# Altium footprint library CONN_W2B.PcbLib: 89 footprints (part 1 of 6)
Each footprint in its own frame and in the unit in brackets; x right, y up, seen from the top. Pads: shape width x height; smd on the part's side, far side on the other; paste and mask are expansions set on the pad; w line width, h text height; cw(c..) or ccw(c..) is an arc to the next point about the centre after c.
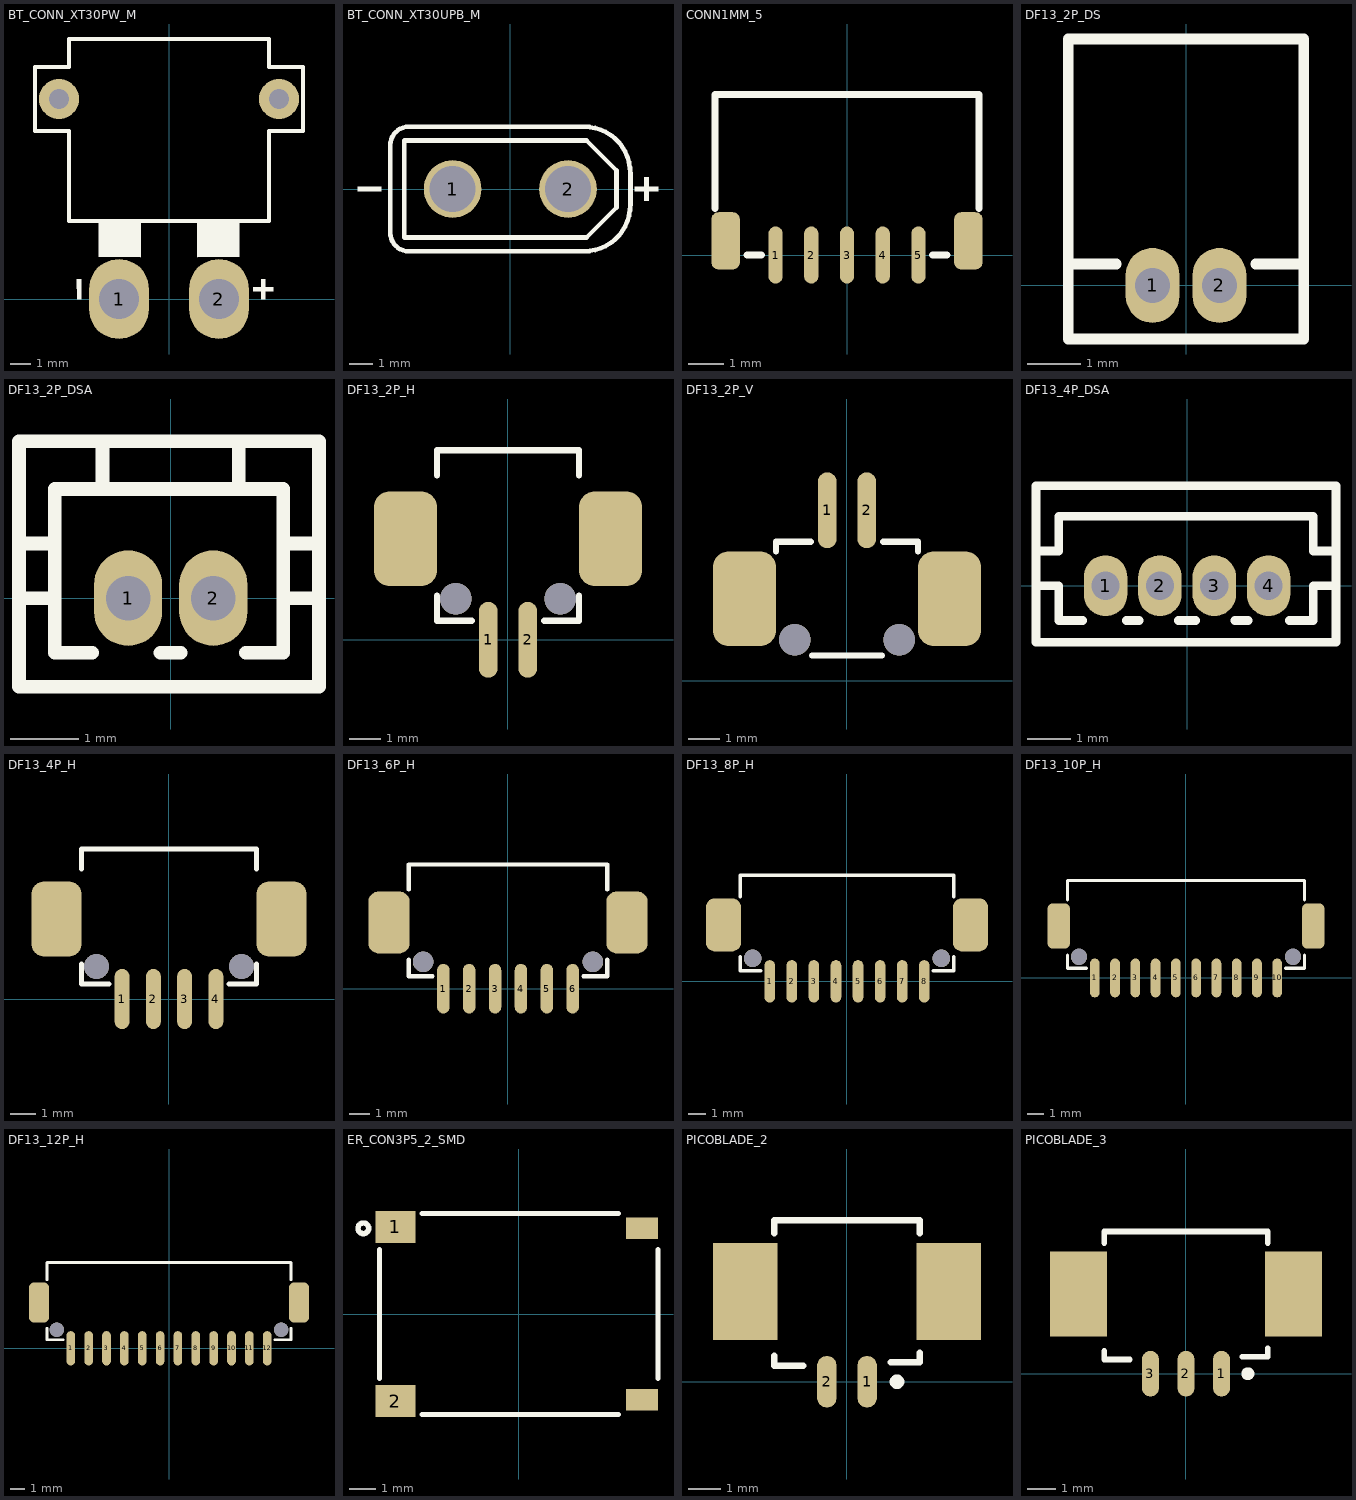
[diagram p0: the footprints below, top view; thin cyan lines are the x and y axes]

## BT_CONN_XT30PW_M [mm] "BATTERY CONN, XT30PW-M , right angle"
pads (4):
  oval 3x4 hole 2: 1(-2.5,0) 2(2.5,0)
  round 2 hole 1 unplated: ""(-5.5,10) ""(5.5,10)
Top Overlay:
  region: -4.6,1 -4.4,1 -4.4,0 -4.6,0
  region: 4.6,1 4.8,1 4.8,0 4.6,0
  region: 4.2,0.4 4.2,0.6 5.2,0.6 5.2,0.4
  region: -1.4,2.1 -1.4,3.9 -3.5,3.9 -3.5,2.1
  region: 1.4,2.1 1.4,3.9 3.5,3.9 3.5,2.1
  lines w0.2: -6.7,8.4 -5,8.4 -5,3.9 5,3.9 5,8.4 6.7,8.4 6.7,11.6 5,11.6 5,13 -5,13 -5,11.6 -6.7,11.6 -6.7,8.4
3D body "XT30PW-M.step": height 5, standoff -2, extent -6.65,-1 6.65,12.95

## BT_CONN_XT30UPB_M [mm] "BATTERY CONN, XT30UPB-M, Vertical"
pads (2):
  round 2.5 / inner round 2.5 / far side oval 3x4 hole 2: 1(-2.5,0) 2(2.5,0)
Top Overlay:
  region: 5.4,0.1 5.4,-0.1 6.4,-0.1 6.4,0.1
  region: 5.8,-0.5 6,-0.5 6,0.5 5.8,0.5
  region: -6.6,0.1 -6.6,-0.1 -5.6,-0.1 -5.6,0.1
  lines w0.2: 5.2,-0.7 cw(c3.2,-0.7) 3.2,-2.7 -4.4,-2.7 cw(c-4.4,-1.9) -5.2,-1.9 -5.2,1.9 cw(c-4.4,1.9) -4.4,2.7 3.2,2.7 cw(c3.2,0.7) 5.2,0.7 ; 5.207,-0.693 5.207,0.693 ; -4.6,-2.1 3.3,-2.1 4.6,-0.8 4.6,0.8 3.3,2.1 -4.6,2.1 -4.6,-2.1
3D body "XT30PB.stp": height 10.65, standoff -2.05, extent -5.1,-2.6 5.1,2.6

## CONN1MM_5 [mm] "CONN, 1mm, SMT RA, TE 1734709-5"
height 3
pads (7):
  oval 0.4x1.6 smd: 1(-2,0) 2(-1,0) 3(0,0) 4(1,0) 5(2,0)
  rrect50% 0.8x1.6 smd: ""(-3.4,0.4) ""(3.4,0.4)
Top Overlay:
  lines w0.2: -3.7,1.3 -3.7,4.5 3.7,4.5 3.7,1.3 ; -2.8,0 -2.4,0 ; 2.4,0 2.8,0
3D body "c-1734709-5-b-3d.stp": height 2.95, standoff 0, extent -3.65,-0.55 3.65,4.4

## DF13_2P_DS [mm] "Hirose Connector DF13-2P-1.25DS pitch:1.25mm"
height 3
pads (2):
  oval 1x1.4 hole 0.65: 1(-0.625,0) 2(0.625,0)
Top Overlay:
  lines w0.2: -2.2,0.4 -1.3,0.4 ; 1.3,0.4 2.2,0.4 ; -2.2,-1 -2.2,4.6 2.2,4.6 2.2,-1 -2.2,-1
3D body "DF13-2P-1.25DS.stp": height 3.63, standoff -2.27, extent -2.075,-0.9 2.075,4.5

## DF13_2P_DSA [mm] "Hirose Connector DF13-2P-1.25DSA pitch:1.25mm"
height 3
pads (2):
  oval 1x1.4 hole 0.65: 1(-0.625,0) 2(0.625,0)
Top Overlay:
  lines w0.2: -2.225,0.8 -1.7,0.8 ; -2.2,0 -1.7,0 ; -1.15,-0.8 -1.7,-0.8 -1.7,0 ; -1,1.6 -1,2.3 ; -0.15,-0.8 0.15,-0.8 ; 1,1.6 1,2.3 ; 1.1,-0.8 1.65,-0.8 1.65,0 ; 2.15,0 1.65,0 ; 2.175,0.8 1.65,0.8 ; -1.7,0 -1.7,0.8 ; -1.7,0.8 -1.7,1.6 1.65,1.6 1.65,0.8 ; 1.65,0 1.65,0.8 ; -2.225,-1.3 -2.225,2.3 2.175,2.3 2.175,-1.3 -2.225,-1.3
3D body "DF13-2P-1.25DSA.stp": height 4.32, standoff -2.28, extent -2.075,-1.2 2.075,2.2

## DF13_2P_H [mm] "Hirose Connector DF13-2P-1.25H, pitch:1.25mm"
height 3
pads (6):
  oval 0.6x2.4 smd: 1(-0.625,0) 2(0.625,0)
  rrect50% 2x3 smd: ""(-3.25,3.2) ""(3.25,3.2)
  round 1 hole 1 unplated: ""(-1.65,1.3) ""(1.65,1.3)
Top Overlay:
  lines w0.2: -2.25,1.4 -2.25,0.6 -1.15,0.6 ; -2.25,5.2 -2.25,6 2.25,6 2.25,5.2 ; 1.15,0.6 2.25,0.6 2.25,1.4
3D body "DF13A-2P-1.25H.stp": height 3.58, standoff -0.02, extent -3.575,-0.6 3.575,5.9

## DF13_2P_V [mm] "Hirose Connector DF13-2P-1.25V, pitch:1.25mm"
height 3
pads (6):
  oval 0.6x2.4 smd: 1(-0.625,5.4) 2(0.625,5.4)
  rrect50% 2x3 smd: ""(-3.25,2.6) ""(3.25,2.6)
  round 1 hole 1 unplated: ""(-1.65,1.3) ""(1.65,1.3)
Top Overlay:
  lines w0.2: -2.25,4.1 -2.25,4.4 -1.15,4.4 ; -1.1,0.8 1.1,0.8 ; 1.15,4.4 2.25,4.4 2.25,4.1
3D body "WNCW-1600242.stp": height 4.77, standoff -0.83, extent -3.575,0.9 3.575,5.8

## DF13_4P_DSA [mm] "Hirose Connector DF13-4P-1.25DSA pitch:1.25mm"
height 3
pads (4):
  oval 1x1.4 hole 0.65: 1(-1.875,0) 2(-0.625,0) 3(0.625,0) 4(1.875,0)
Top Overlay:
  lines w0.2: -3.475,0.8 -2.95,0.8 -2.95,1.6 2.9,1.6 2.9,0.8 3.425,0.8 ; -3.45,0 -2.95,0 -2.95,-0.8 -2.4,-0.8 ; -1.4,-0.8 -1.1,-0.8 ; -0.2,-0.8 0.2,-0.8 ; 1.1,-0.8 1.4,-0.8 ; 2.35,-0.8 2.9,-0.8 2.9,0 3.4,0 ; -3.475,-1.3 -3.475,2.3 3.425,2.3 3.425,-1.3 -3.475,-1.3
3D body "step_temp.STEP": height 4.32, standoff -2.28, extent -3.345,-1.191 3.305,2.209

## DF13_4P_H [mm] "Hirose Connector DF13-4P-1.25H, DF13 4WAY pitch:1.25mm"
height 3
pads (8):
  oval 0.6x2.4 smd: 1(-1.875,0) 2(-0.625,0) 3(0.625,0) 4(1.875,0)
  rrect50% 2x3 smd: ""(-4.5,3.2) ""(4.5,3.2)
  round 1 hole 1 unplated: ""(-2.9,1.3) ""(2.9,1.3)
Top Overlay:
  lines w0.2: -3.5,1.4 -3.5,0.6 -2.4,0.6 ; -3.5,5.2 -3.5,6 3.5,6 3.5,5.2 ; 2.4,0.6 3.5,0.6 3.5,1.4
3D body "DF13_4WAY.stp": height 3.58, standoff -0.82, extent -4.825,-0.6 4.825,5.9

## DF13_6P_H [mm] "Hirose Connector DF13-6P-1.25H, DF13 6WAY pitch:1.25mm"
height 3
pads (10):
  oval 0.6x2.4 smd: 1(-3.125,0) 2(-1.875,0) 3(-0.625,0) 4(0.625,0) 5(1.875,0) 6(3.125,0)
  rrect50% 2x3 smd: ""(-5.75,3.2) ""(5.75,3.2)
  round 1 hole 1 unplated: ""(-4.1,1.3) ""(4.1,1.3)
Top Overlay:
  lines w0.2: -4.8,1.4 -4.8,0.6 -3.65,0.6 ; -4.8,4.8 -4.8,6 4.8,6 4.8,4.8 ; 3.65,0.6 4.8,0.6 4.8,1.4
3D body "DF13_6WAY.stp": height 3.58, standoff -0.82, extent -6.075,-0.6 6.075,5.9

## DF13_8P_H [mm] "Hirose Connector DF13-8P-1.25H, pitch:1.25mm"
height 3
pads (12):
  oval 0.6x2.4 smd: 1(-4.375,0) 2(-3.125,0) 3(-1.875,0) 4(-0.625,0) 5(0.625,0) 6(1.875,0) 7(3.125,0) 8(4.375,0)
  rrect50% 2x3 smd: ""(-7,3.2) ""(7,3.2)
  round 1 hole 1 unplated: ""(-5.35,1.3) ""(5.35,1.3)
Top Overlay:
  lines w0.2: -6.05,1.4 -6.05,0.6 -4.9,0.6 ; -6.05,4.8 -6.05,6 6.05,6 6.05,4.8 ; 4.9,0.6 6.05,0.6 6.05,1.4
3D body "DF13-8P-1.25H.stp": height 3.58, standoff -0.82, extent -7.325,-0.6 7.325,5.9

## DF13_10P_H [mm] "Hirose Connector DF13-12P-1.25H, pitch:1.25mm"
height 3
pads (14):
  oval 0.6x2.4 smd: 1(-5.625,0) 2(-4.375,0) 3(-3.125,0) 4(-1.875,0) 5(-0.625,0) 6(0.625,0) 7(1.875,0) 8(3.125,0) 9(4.375,0) 10(5.625,0)
  rrect50% 1.4x2.8 smd: ""(-7.85,3.2) ""(7.85,3.2)
  round 1 hole 1 unplated: ""(-6.6,1.3) ""(6.6,1.3)
Top Overlay:
  lines w0.2: -7.3,1.4 -7.3,0.6 -6.15,0.6 ; -7.3,4.8 -7.3,6 7.3,6 7.3,4.8 ; 6.15,0.6 7.3,0.6 7.3,1.4
3D body "DF13-10P-1.25H.stp": height 3.58, standoff -0.82, extent -8.575,-0.6 8.575,5.9

## DF13_12P_H [mm] "Hirose Connector DF13-12P-1.25H, pitch:1.25mm"
height 3
pads (16):
  oval 0.6x2.4 smd: 1(-6.875,0) 2(-5.625,0) 3(-4.375,0) 4(-3.125,0) 5(-1.875,0) 6(-0.625,0) 7(0.625,0) 8(1.875,0) 9(3.125,0) 10(4.375,0) 11(5.625,0) 12(6.875,0)
  rrect50% 1.4x2.8 smd: ""(-9.1,3.2) ""(9.1,3.2)
  round 1 hole 1 unplated: ""(-7.85,1.3) ""(7.85,1.3)
Top Overlay:
  lines w0.2: -8.55,1.4 -8.55,0.6 -7.4,0.6 ; -8.55,4.8 -8.55,6 8.55,6 8.55,4.8 ; 7.4,0.6 8.55,0.6 8.55,1.4
3D body "DF13-12P-1.25H.stp": height 3.58, standoff -0.82, extent -9.825,-0.6 9.825,5.9

## ER_CON3P5_2_SMD [mm] "ER-CON3.5-2P-SMD"
pads (4):
  rect 1.5x1.2 smd: 1(-4.6,3.25) 2(-4.6,-3.25)
  rect 1.2x0.8 smd: ""(4.6,-3.2) ""(4.6,3.2)
Top Overlay:
  circle w0.2: c-5.8,3.2 r0.2
  lines w0.2: -5.2,-2.4 -5.2,2.4 ; -3.6,-3.75 3.717,-3.75 ; -3.6,3.75 3.717,3.75 ; 5.2,-2.4 5.2,2.4
3D body: height 3.65, standoff 0, extent -5.25,-3.725 5.25,3.725

## PICOBLADE_2 [mm] "CONN, 1.25mm pitch, Molex PicoBlade 1.0A/250v"
pads (4):
  oval 0.6x1.6 smd: 1(0.625,0) 2(-0.625,0)
  rect 2x3 smd: ""(-3.15,2.8) ""(3.15,2.8)
Top Overlay:
  circle w0.254: c1.55,0 r0.1
  lines w0.2: -2.25,0.8 -2.25,0.5 -1.35,0.5 ; -2.25,4.6 -2.25,5 2.25,5 2.25,4.6 ; 1.35,0.6 2.25,0.6 2.25,0.9
Mechanical 29:
  text ".Designator" at 2.35,-2.2 h1.52
3D body "532610271.STEP": height 3.4, standoff 0, extent -3.825,-0.3 3.825,4.9

## PICOBLADE_3 [mm] "CONN, 1.25mm pitch, Molex PicoBlade 1.0A/250v"
pads (5):
  oval 0.6x1.6 smd: 1(1.25,0) 2(0,0) 3(-1.25,0)
  rect 2x3 smd: ""(-3.775,2.8) ""(3.775,2.8)
Top Overlay:
  circle w0.254: c2.175,0 r0.1
  lines w0.2: -2.875,0.8 -2.875,0.5 -1.975,0.5 ; -2.875,4.6 -2.875,5 2.875,5 2.875,4.6 ; 1.975,0.6 2.875,0.6 2.875,0.9
Mechanical 29:
  text ".Designator" at 2.975,-2.2 h1.52
3D body "532610371.STEP": height 3.4, standoff 0, extent -4.45,-0.3 4.45,4.9